# EAGLE library part AD8099 (library opamps)
AD8099: High speed, low distortion opamp (Analog Devices) ±5V, ±120mA, 13µA bias 500µV offset, 450MHz UGF, 0.95nV/rt(Hz) noise
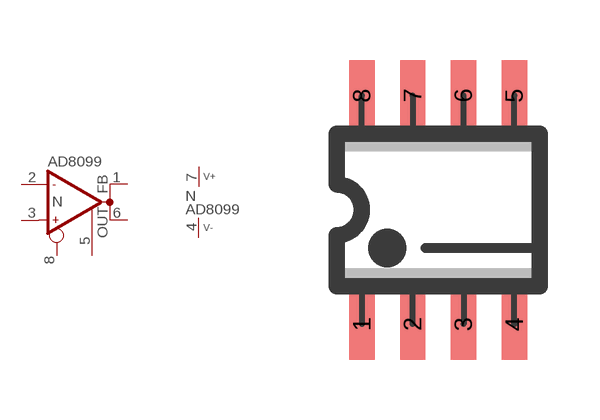
[diagram p243: symbol with the pads of SO08; footprint SO08]

Designator prefix N; gates A=OP_AD8099 P=V+-

## AD8099  [SO08]
1  A:FDBK  out
2  A:IN-  in
3  A:IN+  in
4  P:V-  pwr
5  A:CC
6  A:OUT  out
7  P:V+  pwr
8  A:DIS  in

## AD8099S  [SO08]
Pads as for SO08

## Footprint SO08 (pad centres in mm)
SO-8, SMD SOIC IC package, 8 pins
smd 0.635 x 1.778: 1 -1.905,-2.857; 2 -0.635,-2.857; 3 0.635,-2.857; 4 1.905,-2.857; 5 1.905,2.857; 6 0.635,2.857; 7 -0.635,2.857; 8 -1.905,2.857